# Altium footprint library SIM808 dev Board V1.0.2.PcbLib: 18 footprints (part 1 of 2)
Each footprint in its own frame and in the unit in brackets; x right, y up, seen from the top. Pads: shape width x height; smd on the part's side, far side on the other; paste and mask are expansions set on the pad; w line width, h text height; cw(c..) or ccw(c..) is an arc to the next point about the centre after c.
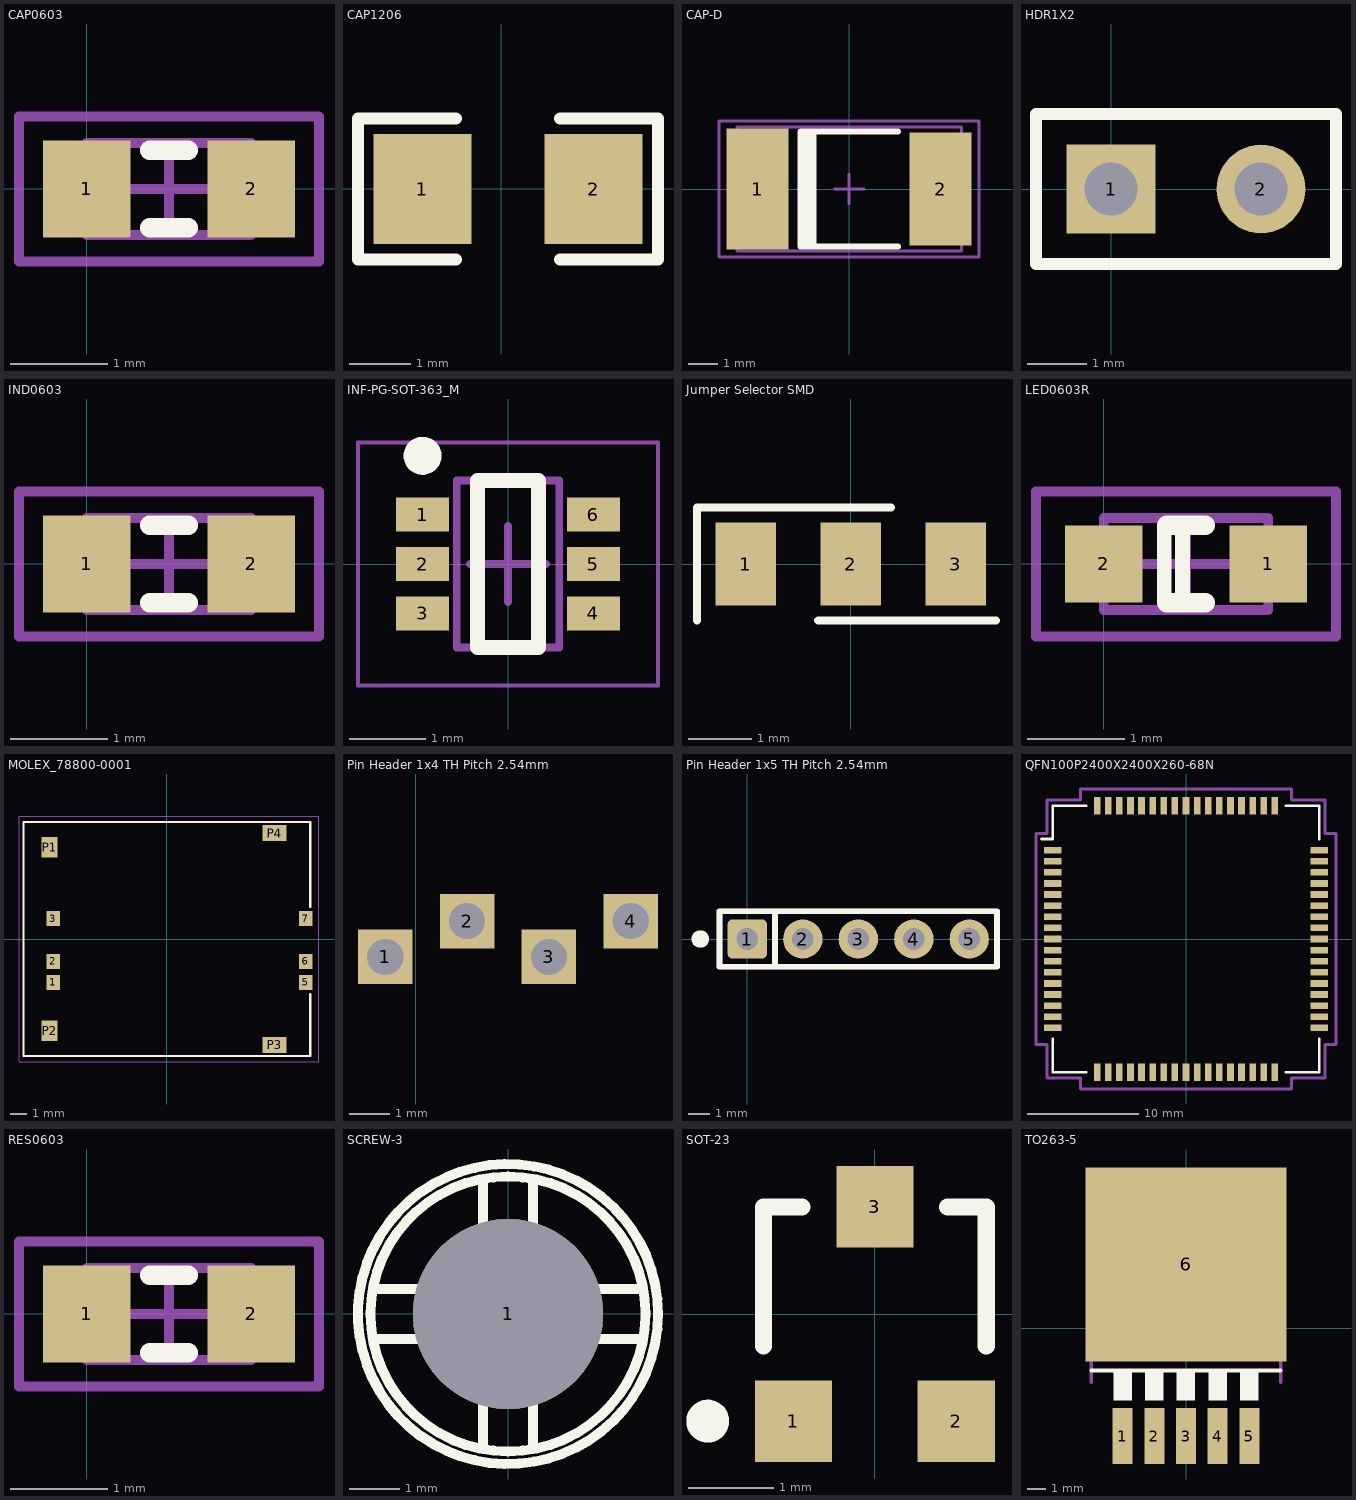
[diagram p0: the footprints below, top view; thin cyan lines are the x and y axes]

## CAP0603 [mm]
height 4.45
pads (2):
  rect 0.9x1 smd: 1(0,0) 2(1.7,0)
Top Overlay:
  lines w0.2: 0.65,-0.4 1.05,-0.4 ; 0.65,0.4 1.05,0.4
Mechanical 13:
  lines w0.1: 0,-0.475 1.7,-0.475 1.7,0.475 0,0.475 0,-0.475
Mechanical 15:
  lines w0.1: 0.375,0 1.325,0 ; 0.85,-0.475 0.85,0.475 ; -0.7,-0.75 2.4,-0.75 2.4,0.75 -0.7,0.75 -0.7,-0.75
3D body "User Library-0603 SMD Capacitor.step": height 0.3, standoff 0, extent 0.05,-0.4 1.65,0.4

## CAP1206 [mm]
pads (2):
  rect 1.6x1.8 smd: 1(-1.29,-0.005) 2(1.51,-0.005)
Top Overlay:
  lines w0.2: -0.74,-1.155 -2.34,-1.155 -2.34,1.145 -0.74,1.145 ; 0.96,-1.155 2.56,-1.155 2.56,1.145 0.96,1.145
3D body "10uf 1206.stp": height 1.78, standoff -0.02, extent -1.59,-0.905 1.81,0.895

## CAP-D [mm] "Chip Capacitor, Body 7.2x3.8mm, IPC Medium Density"
height 3.18
pads (2):
  rect 2.1x4.1 smd: 1(-3.1,0)
  rect 2.1x3.81 smd: 2(3.1,0)
Top Overlay:
  rectangle: -1.65,-1.95 -1.1,1.95
  lines w0.2: 1.65,-1.95 -1.65,-1.95 -1.65,1.95 1.65,1.95
Mechanical 13:
  lines w0.1: -3.8,-2.1 3.8,-2.1 3.8,2.1 -3.8,2.1 -3.8,-2.1
Mechanical 15:
  lines w0.1: -0.5,0 0.5,0 ; 0,-0.5 0,0.5 ; -4.4,-2.3 4.4,-2.3 4.4,2.3 -4.4,2.3 -4.4,-2.3
3D body "User Library-CaseD_7343-31.STEP": height 2.8, standoff 0, extent -3.65,-2.15 3.65,2.15

## HDR1X2 [mm] "Connector; Header; 2 Position"
height 1
pads (2):
  rect 1.5x1.5 hole 0.9: 1(0,0)
  round 1.5 hole 0.9: 2(2.54,0)
Top Overlay:
  lines w0.2: -1.27,-1.27 -1.27,1.27 3.81,1.27 3.81,-1.27 -1.27,-1.27

## IND0603 [mm]
height 4.45
pads (2):
  rect 0.9x1 smd: 1(0,0) 2(1.7,0)
Top Overlay:
  lines w0.2: 0.65,-0.4 1.05,-0.4 ; 0.65,0.4 1.05,0.4
Mechanical 13:
  lines w0.1: 0,-0.475 1.7,-0.475 1.7,0.475 0,0.475 0,-0.475
Mechanical 15:
  lines w0.1: 0.375,0 1.325,0 ; 0.85,-0.475 0.85,0.475 ; -0.7,-0.75 2.4,-0.75 2.4,0.75 -0.7,0.75 -0.7,-0.75
3D body "User Library-INDC1608X___.step": height 1, standoff 0, extent 0.05,-0.4 1.65,0.4

## INF-PG-SOT-363_M [mm] "SOT23, 3-Leads, Body 2x1.25mm, Pitch 0.65mm, IPC Low Density"
height 1
pads (6):
  rect 0.7x0.45 smd: 1(-1.125,0.65) 2(-1.125,0) 3(-1.125,-0.65) 4(1.125,-0.65) 5(1.125,0) 6(1.125,0.65)
Top Overlay:
  circle w0.25: c-1.125,1.425 r0.125
  lines w0.2: -0.4,-1.1 -0.4,1.1 0.4,1.1 0.4,-1.1 -0.4,-1.1
Mechanical 13:
  lines w0.1: -0.675,-1.1 0.675,-1.1 0.675,1.1 -0.675,1.1 -0.675,-1.1
Mechanical 15:
  lines w0.05: -1.975,-1.6 1.975,-1.6 1.975,1.6 -1.975,1.6 -1.975,-1.6
  lines w0.1: -0.5,0 0.5,0 ; 0,-0.5 0,0.5
3D body: height 1, standoff 0.1, extent -0.675,-1.1 0.675,1.1

## Jumper Selector SMD [mm]
pads (3):
  rect 0.95x1.3 smd: 1(-1.65,0) 2(0,0) 3(1.65,0)
Top Overlay:
  lines w0.127: -2.413,-0.889 -2.413,0.889 0.635,0.889 ; -0.508,-0.889 2.286,-0.889
3D body "0805.STEP": height 0.6, standoff 0, extent -1.854,-0.635 0.178,0.635

## LED0603R [mm]
height 4.45
pads (2):
  rect 0.8x0.8 smd: 1(1.7,0) 2(0,0)
Top Overlay:
  lines w0.152: 0.625,-0.4 0.625,0.4 ; 0.813,-0.4 0.813,0.4
  lines w0.203: 0.65,-0.4 1.05,-0.4 ; 0.65,0.4 1.05,0.4
Mechanical 13:
  lines w0.1: 0,-0.475 1.7,-0.475 1.7,0.475 0,0.475 0,-0.475
Mechanical 15:
  lines w0.1: 0.375,0 1.325,0 ; 0.85,-0.475 0.85,0.475 ; -0.7,-0.75 2.4,-0.75 2.4,0.75 -0.7,0.75 -0.7,-0.75
3D body "User Library-LED_0603_R.STEP": height 0.6, standoff 0, extent 0.05,-0.4 1.65,0.4

## MOLEX_78800-0001 [mm]
height 1
pads (10):
  rect 0.8x0.9 smd: 1(-6.71,-2.57) 2(-6.71,-1.33) 3(-6.71,1.21) 5(8.23,-2.57) 6(8.23,-1.33) 7(8.23,1.21)
  rect 0.95x1.2 smd: P1(-6.94,5.425) P2(-6.94,-5.425)
  rect 1.4x0.95 smd: P3(6.37,-6.26) P4(6.37,6.26)
Top Overlay:
  lines w0.127: 8.48,-3.25 8.48,-6.925 -8.48,-6.925 -8.48,6.925 8.48,6.925 8.48,1.9
Mechanical 15:
  lines w0.05: -8.75,-7.25 -8.75,7.25 9,7.25 9,-7.25 -8.75,-7.25
3D body "788000001.stp": height 1.5, standoff -0.01, extent -8.48,-6.925 8.48,6.925

## Pin Header 1x4 TH Pitch 2.54mm [mm] "PinHeader 1x4 TH Pitch 2.54mm"
height 9.5
pads (4):
  rect 1.35x1.35 hole 0.9: 1(-0.762,-5.588) 2(1.27,-4.699) 3(3.302,-5.588) 4(5.334,-4.699)

## Pin Header 1x5 TH Pitch 2.54mm [mm] "PinHeader 1x5 TH Pitch 2.54mm"
height 9.5
pads (5):
  rrect25% 1.8x1.8 hole 1: 1(0,0)
  round 1.8 hole 1: 2(2.54,0) 3(5.08,0) 4(7.62,0) 5(10.16,0)
Top Overlay:
  circle w0.5: c-2.15,0 r0.15
  lines w0.254: 1.27,-1.27 1.27,1.27 -1.27,1.27 ; -1.27,1.27 11.43,1.27 11.43,-1.27 -1.27,-1.27 -1.27,1.27
Mechanical 3:
  lines w0.254: 1.27,-1.27 1.27,1.27 -1.27,1.27 ; -1.27,1.27 11.43,1.27 11.43,-1.27 -1.27,-1.27 -1.27,1.27
3D body "Pin Header 1x5 TH Pitch 2.54mm.stp": height 9.5, standoff -3.2, extent -1.27,-1.27 11.43,1.27

## QFN100P2400X2400X260-68N [mm]
height 1
pads (68):
  rect 1.6x0.6 smd: 1(-12,8) 2(-12,7) 3(-12,6) 4(-12,5) 5(-12,4) 6(-12,3) 7(-12,2) 8(-12,1) 9(-12,0) 10(-12,-1) 11(-12,-2) 12(-12,-3) 13(-12,-4) 14(-12,-5) 15(-12,-6) 16(-12,-7) 17(-12,-8) 35(12,-8) 36(12,-7) 37(12,-6) 38(12,-5) 39(12,-4) 40(12,-3) 41(12,-2) 42(12,-1) 43(12,0) 44(12,1) 45(12,2) 46(12,3) 47(12,4) 48(12,5) 49(12,6) 50(12,7) 51(12,8)
  rect 0.6x1.6 smd: 18(-8,-12) 19(-7,-12) 20(-6,-12) 21(-5,-12) 22(-4,-12) 23(-3,-12) 24(-2,-12) 25(-1,-12) 26(0,-12) 27(1,-12) 28(2,-12) 29(3,-12) 30(4,-12) 31(5,-12) 32(6,-12) 33(7,-12) 34(8,-12) 52(8,12) 53(7,12) 54(6,12) 55(5,12) 56(4,12) 57(3,12) 58(2,12) 59(1,12) 60(0,12) 61(-1,12) 62(-2,12) 63(-3,12) 64(-4,12) 65(-5,12) 66(-6,12) 67(-7,12) 68(-8,12)
Top Overlay:
  lines w0.254: -13,9 -12,9 -12,12 -9,12 ; -12,-9 -12,-12 -9,-12 ; 9,-12 12,-12 12,-9 ; 9,12 12,12 12,9
Mechanical 15:
  lines w0.254: -13.5,-9.5 -12.5,-9.5 -12.5,-12.5 -9.5,-12.5 -9.5,-13.5 9.5,-13.5 9.5,-12.5 12.5,-12.5 12.5,-9.5 13.5,-9.5 13.5,9.5 12.5,9.5 12.5,12.5 9.5,12.5 9.5,13.5 -9.5,13.5 -9.5,12.5 -12.5,12.5 -12.5,9.5 -13.5,9.5 -13.5,-9.5
3D body "User Library-SIM808.step": height 2.89, standoff -0.01, extent -12,-12 12,12

## RES0603 [mm]
height 4.45
pads (2):
  rect 0.9x1 smd: 1(0,0) 2(1.7,0)
Top Overlay:
  lines w0.2: 0.65,-0.4 1.05,-0.4 ; 0.65,0.4 1.05,0.4
Mechanical 13:
  lines w0.1: 0,-0.475 0,0.475 1.7,0.475 1.7,-0.475 0,-0.475
Mechanical 15:
  lines w0.1: 0.375,0 1.325,0 ; 0.85,-0.475 0.85,0.475 ; -0.7,-0.75 -0.7,0.75 2.4,0.75 2.4,-0.75 -0.7,-0.75
3D body "User Library-RESC1608X05N.step": height 0.45, standoff 0, extent 0.075,-0.425 1.625,0.425

## SCREW-3 [mm]
height 6.34
pads (1):
  round 3.81 hole 3.81: 1(0,0)
Top Overlay:
  circle w0.2: c0,0 r3
  circle w0.2: c0,0 r2.75
  lines w0.2: -2.675,-0.5 -0.5,-0.5 -0.5,-2.675 ; -2.675,0.5 -0.5,0.5 -0.5,2.675 ; 0.5,-2.675 0.5,-0.5 2.675,-0.5 ; 0.5,2.675 0.5,0.5 2.675,0.5
Bottom Overlay:
  circle w0.2: c0,0 r2.75
  circle w0.2: c0,0 r3
  lines w0.2: -2.675,-0.5 -0.5,-0.5 -0.5,-2.675 ; -2.675,0.5 -0.5,0.5 -0.5,2.675 ; 0.5,-2.675 0.5,-0.5 2.675,-0.5 ; 0.5,2.675 0.5,0.5 2.675,0.5

## SOT-23 [mm]
height 1
pads (3):
  rect 0.9x0.95 smd: 1(-0.95,-1.25) 2(0.95,-1.25) 3(0,1.25)
Top Overlay:
  circle w0.25: c-1.95,-1.25 r0.125
  lines w0.2: -1.3,-0.375 -1.3,1.25 -0.85,1.25 ; 0.85,1.25 1.3,1.25 1.3,-0.375
3D body: height 1.1, standoff 0, extent -1.3,-0.832 1.3,0.94

## TO263-5 [mil]
height 39.37
pads (6):
  rect 42x118.11 smd: 1(-134,-228) 2(-67,-228) 3(0,-228) 4(67,-228) 5(134,-228)
  rect 425.2x409.84 smd: 6(0,135)
Top Overlay:
  region: -153.24,-86 -115,-86 -115,-152.28 -153.24,-152.28
  region: -86.27,-86 -48,-86 -48,-152.55 -86.27,-152.55
  region: -19.04,-86 19,-86 19,-152.41 -19.04,-152.41
  region: 48.1,-86 86,-86 86,-152.36 48.1,-152.36
  region: 115.19,-86 153,-86 153,-152.29 115.19,-152.29
  lines w8: -200.55,-89.39 200.55,-89.39
Mechanical 4:
  region: -153.32,-175 -115,-175 -115,-260.55 -153.32,-260.55
  region: -86.3,-175 -48,-175 -48,-260.91 -86.3,-260.91
  region: -19.01,-175 19,-175 19,-260.14 -19.01,-260.14
  region: 48.11,-175 86,-175 86,-260.58 48.11,-260.58
  region: 115.09,-175 153,-175 153,-260.21 115.09,-260.21
  region: -201,286.1 -201,302.29 -133,320.29 133,320.29 201,302.29 201,286.1
  region: -153.32,-175 -115,-175 -115,-260.55 -153.32,-260.55
  region: -86.3,-175 -48,-175 -48,-260.91 -86.3,-260.91
  region: -19.01,-175 19,-175 19,-260.14 -19.01,-260.14
  region: 48.11,-175 86,-175 86,-260.58 48.11,-260.58
  region: 115.09,-175 153,-175 153,-260.21 115.09,-260.21
  region: -201,286.1 -201,302.29 -133,320.29 133,320.29 201,302.29 201,286.1
  lines w8: -200.98,286.1 -200.98,302.28 ; -200.98,286.1 200.98,286.1 ; -200.98,286.1 -200.98,302.28 ; -200.98,286.1 200.98,286.1 ; -200.98,302.28 -132.99,320.28 ; -200.98,302.28 -132.99,320.28 ; -200.55,282.09 -200.55,-113.39 -200.55,282.09 ; -200.55,282.09 200.55,282.09 ; -200.55,282.09 200.55,282.09 ; -132.99,320.28 132.99,320.28 ; -132.99,320.28 132.99,320.28 ; 132.99,320.28 200.98,302.28 ; 132.99,320.28 200.98,302.28 ; 200.55,282.09 200.55,-113.39 200.55,282.09 ; 200.98,286.1 200.98,302.28 ; 200.98,286.1 200.98,302.28
3D body "User Library-MIC29302WU.step": height 179.13, standoff 0, extent -202.76,-266.6 202.76,332.92